# Altium integrated library TI Power Management Hot Swap.IntLib: 76 symbols (part 4 of 5)
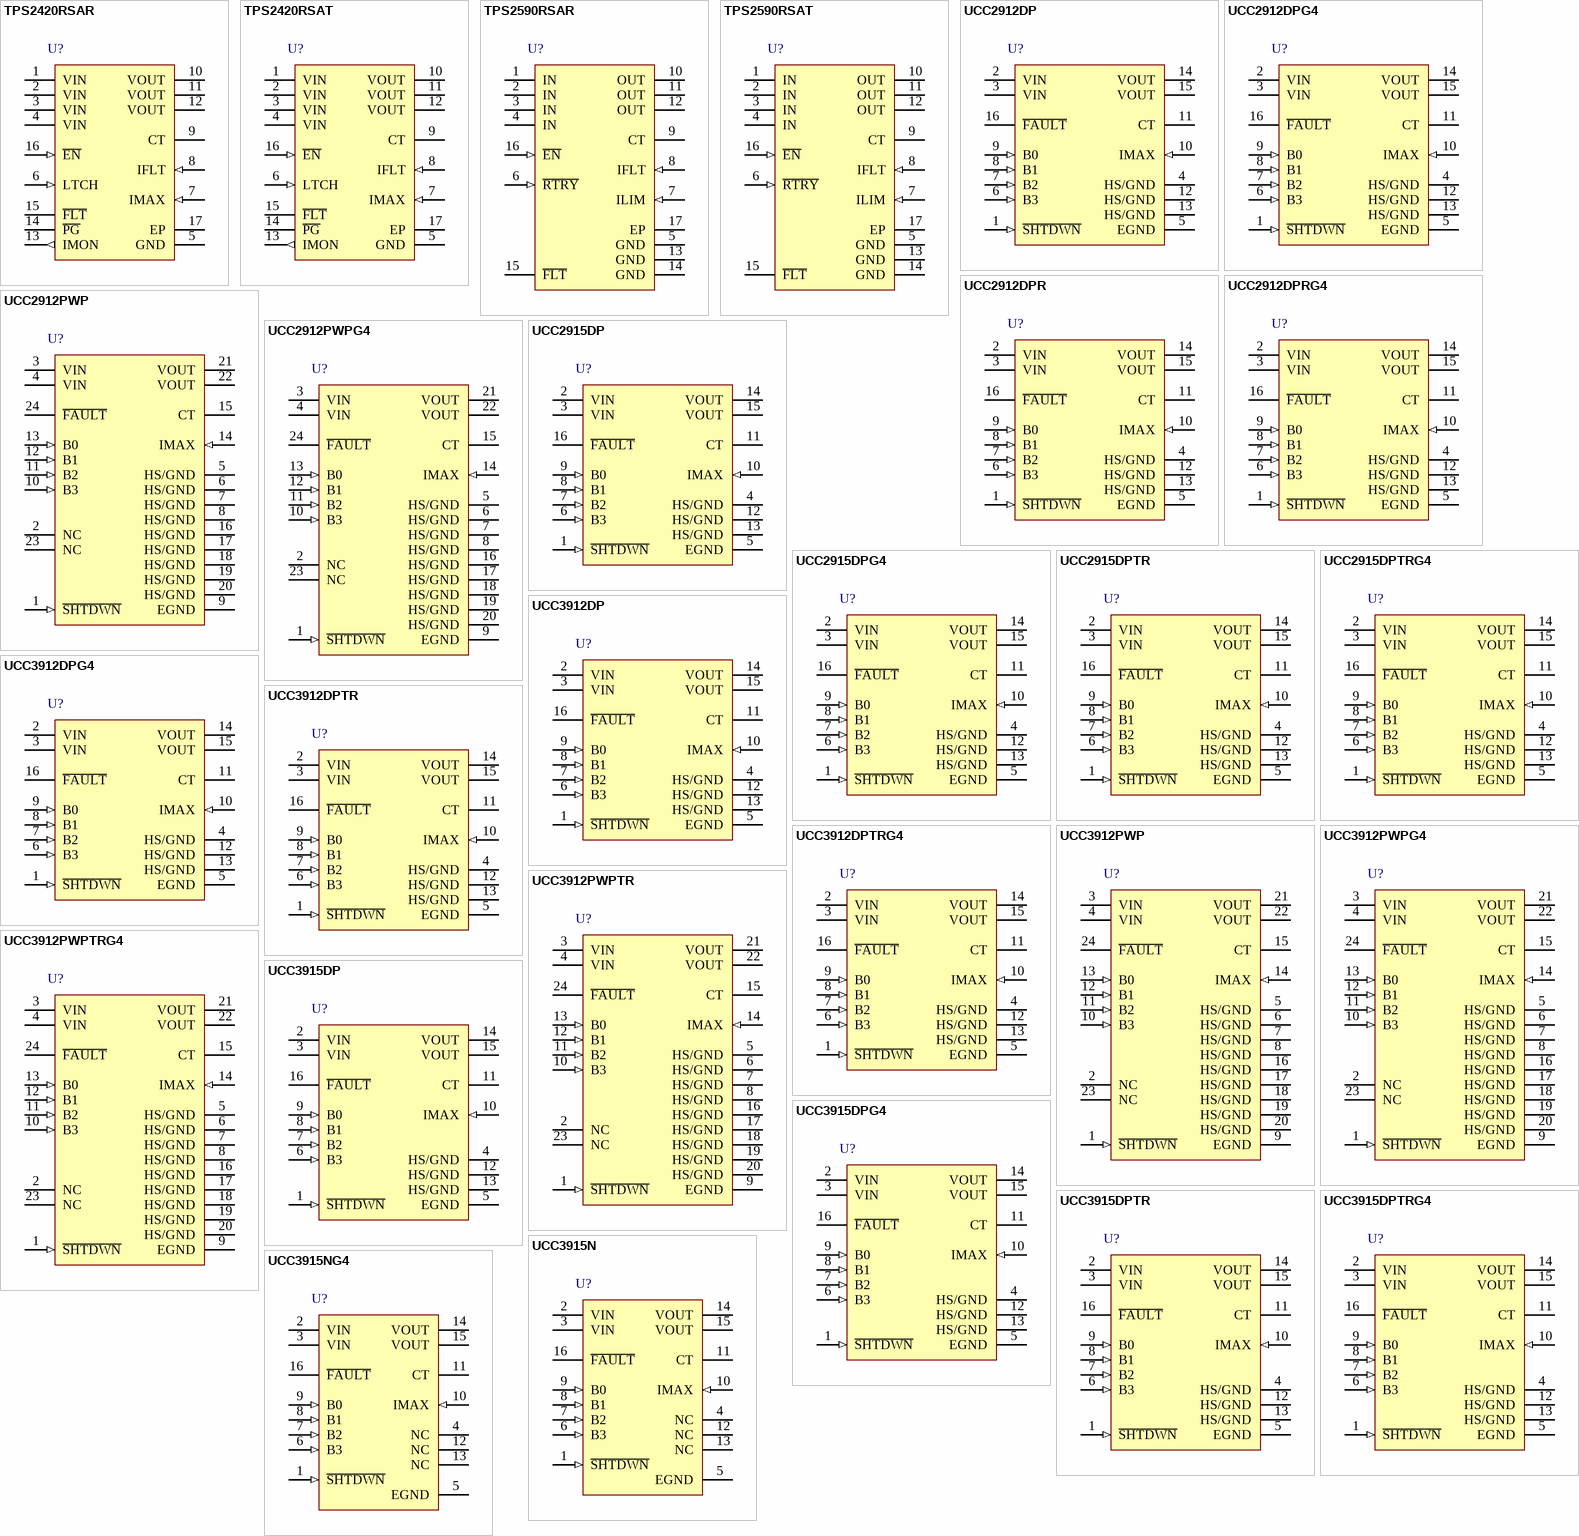
[diagram p5: symbols TPS2420RSAR to UCC3915NG4]

## UCC3912DPTR
designator U?
0 to 3 A, 3 to 8 V Single Hot-Swap IC Hi-Side MOSFET, 0 to 70 degC, 16-pin SOIC (D), Green (RoHS & no Sb/Br); Manufacturer: Texas Instruments; PartNumber: UCC3912DPTR; Over Temp Reporting: TRUE; Rds(ON) FET(Typ)(mOhms): 150; SubFamily: Hot-Swap Switch (Integrated FET); Vin(Max)(V): 8; Vin(Min)(V): 3; DatasheetVersion: SLUS241D; PackageVersion: revM, Jun-2011; PackageReference: D16; PackageDescription: 16-Pin Plastic Small Outline Integrated Circuit, 9.9 x 3.9 mm, Pitch 1.27 mm Pitch; Supplier 1: Digi-Key; Supplier Part Number 1: UCC3912DPTR-ND; Supplier 2: Newark; Supplier Part Number 2: 77C2563; Supplier 3: Mouser; Supplier Part Number 3: 595-UCC3912DPTR; Eco-Plan: Green (RoHS & no Sb/Br); Mounting Technology: Surface Mount; Code_JEDEC: MS-012AC; ComponentLink1Description: Datasheet; ComponentLink1URL: http://www.ti.com/general/docs/lit/getliterature.tsp?genericPartNumber=UCC3912&fileType=pdf; ComponentLink2Description: URL Link1; ComponentLink2URL: Samples URL:http://www.ti.com/product/ucc3912#samples
footprint D16_N (SOIC, 16-Leads, Body 9.9x3.9mm, Pitch 1.27mm, IPC Medium Density)
footprint D16_L (SOIC, 16-Leads, Body 9.9x3.9mm, Pitch 1.27mm, IPC High Density)
footprint D16_M (SOIC, 16-Leads, Body 9.9x3.9mm, Pitch 1.27mm, IPC Low Density)
pins: 1 ~{SHTDWN} (in) "When this pin is brought to a logic low, the IC is put into a sleep mode drawing typically less than 1 uA of ICC. The input threshold is hysteretic, allowing the user to program a startup delay with an external RC circuit.", 2 VIN (power) "Input voltage to the UCC3912. The recommended voltage range is 3 V to 8 V. Both VIN pins should be connected together and to the power source.", 3 VIN (power) "Input voltage to the UCC3912. The recommended voltage range is 3 V to 8 V. Both VIN pins should be connected together and to the power source.", 4 HS/GND (power) "serve as heat sink/ground.", 5 EGND (power) "serves as lowest impedance to the electrical ground", 6 B3 (in) "These pins provide digital input to the DAC which sets the fault current threshold. They can be used to provide a digital soft-start, adaptive current limiting.", 7 B2 (in) "These pins provide digital input to the DAC which sets the fault current threshold. They can be used to provide a digital soft-start, adaptive current limiting.", 8 B1 (in) "These pins provide digital input to the DAC which sets the fault current threshold. They can be used to provide a digital soft-start, adaptive current limiting.", 9 B0 (in) "These pins provide digital input to the DAC which sets the fault current threshold. They can be used to provide a digital soft-start, adaptive current limiting.", 10 IMAX (in) "When this pin is set to logic low the maximum sourcing current will always be 1 A above the programmed fault level. When set to logic high, the maximum sourcing current will be a constant 4 A for applications which require (See Datasheet)", 11 CT "A capacitor connected to ground sets the maximum fault time. The maximum fault time must be more than the time to charge the external capacitance in one cycle.The maximum fault time is defined as FAULT = 27.8 x 10^3 x CT. (See Datasheet)", 12 HS/GND (power) "serve as heat sink/ground.", 13 HS/GND (power) "serve as heat sink/ground.", 14 VOUT (power) "Output voltage from the UCC3912. When switched the output voltage will be approximately VIN - (0.15 ohm x IOUT). Both VOUT pins should be connected together and to the load.", 15 VOUT (power) "Output voltage from the UCC3912. When switched the output voltage will be approximately VIN - (0.15 ohm x IOUT). Both VOUT pins should be connected together and to the load.", 16 ~{FAULT} (oc) "Open drain output which pulls low upon any condition which causes the output to open: fault, thermal shutdown, or shutdown."

## UCC3912DPTRG4
designator U?
0 to 3 A, 3 to 8 V Single Hot-Swap IC Hi-Side MOSFET, 0 to 70 degC, 16-pin SOIC (D), Green (RoHS & no Sb/Br); Manufacturer: Texas Instruments; PartNumber: UCC3912DPTRG4; Over Temp Reporting: TRUE; Rds(ON) FET(Typ)(mOhms): 150; SubFamily: Hot-Swap Switch (Integrated FET); Vin(Max)(V): 8; Vin(Min)(V): 3; DatasheetVersion: SLUS241D; PackageVersion: revM, Jun-2011; PackageReference: D16; PackageDescription: 16-Pin Plastic Small Outline Integrated Circuit, 9.9 x 3.9 mm, Pitch 1.27 mm Pitch; Supplier 1: Digi-Key; Supplier Part Number 1: UCC3912DPTRG4-ND; Supplier 2: Newark; Supplier Part Number 2: 61K1972; Supplier 3: Mouser; Supplier Part Number 3: 595-UCC3912DPTRG4; Eco-Plan: Green (RoHS & no Sb/Br); Mounting Technology: Surface Mount; Code_JEDEC: MS-012AC; ComponentLink1Description: Datasheet; ComponentLink1URL: http://www.ti.com/general/docs/lit/getliterature.tsp?genericPartNumber=UCC3912&fileType=pdf; ComponentLink2Description: URL Link1; ComponentLink2URL: Samples URL:http://www.ti.com/product/ucc3912#samples
footprint D16_N (SOIC, 16-Leads, Body 9.9x3.9mm, Pitch 1.27mm, IPC Medium Density)
footprint D16_L (SOIC, 16-Leads, Body 9.9x3.9mm, Pitch 1.27mm, IPC High Density)
footprint D16_M (SOIC, 16-Leads, Body 9.9x3.9mm, Pitch 1.27mm, IPC Low Density)
pins: 1 ~{SHTDWN} (in) "When this pin is brought to a logic low, the IC is put into a sleep mode drawing typically less than 1 uA of ICC. The input threshold is hysteretic, allowing the user to program a startup delay with an external RC circuit.", 2 VIN (power) "Input voltage to the UCC3912. The recommended voltage range is 3 V to 8 V. Both VIN pins should be connected together and to the power source.", 3 VIN (power) "Input voltage to the UCC3912. The recommended voltage range is 3 V to 8 V. Both VIN pins should be connected together and to the power source.", 4 HS/GND (power) "serve as heat sink/ground.", 5 EGND (power) "serves as lowest impedance to the electrical ground", 6 B3 (in) "These pins provide digital input to the DAC which sets the fault current threshold. They can be used to provide a digital soft-start, adaptive current limiting.", 7 B2 (in) "These pins provide digital input to the DAC which sets the fault current threshold. They can be used to provide a digital soft-start, adaptive current limiting.", 8 B1 (in) "These pins provide digital input to the DAC which sets the fault current threshold. They can be used to provide a digital soft-start, adaptive current limiting.", 9 B0 (in) "These pins provide digital input to the DAC which sets the fault current threshold. They can be used to provide a digital soft-start, adaptive current limiting.", 10 IMAX (in) "When this pin is set to logic low the maximum sourcing current will always be 1 A above the programmed fault level. When set to logic high, the maximum sourcing current will be a constant 4 A for applications which require (See Datasheet)", 11 CT "A capacitor connected to ground sets the maximum fault time. The maximum fault time must be more than the time to charge the external capacitance in one cycle.The maximum fault time is defined as FAULT = 27.8 x 10^3 x CT. (See Datasheet)", 12 HS/GND (power) "serve as heat sink/ground.", 13 HS/GND (power) "serve as heat sink/ground.", 14 VOUT (power) "Output voltage from the UCC3912. When switched the output voltage will be approximately VIN - (0.15 ohm x IOUT). Both VOUT pins should be connected together and to the load.", 15 VOUT (power) "Output voltage from the UCC3912. When switched the output voltage will be approximately VIN - (0.15 ohm x IOUT). Both VOUT pins should be connected together and to the load.", 16 ~{FAULT} (oc) "Open drain output which pulls low upon any condition which causes the output to open: fault, thermal shutdown, or shutdown."

## UCC3912PWP
designator U?
0 to 3 A, 3 to 8 V Single Hot-Swap IC Hi-Side MOSFET, 0 to 70 degC, 24-pin TSSOP (PW), Green (RoHS & no Sb/Br); Manufacturer: Texas Instruments; PartNumber: UCC3912PWP; Over Temp Reporting: TRUE; Rds(ON) FET(Typ)(mOhms): 150; SubFamily: Hot-Swap Switch (Integrated FET); Vin(Max)(V): 8; Vin(Min)(V): 3; DatasheetVersion: SLUS241D; PackageVersion: revG, Feb-2011; PackageReference: PW24; PackageDescription: 24-Pin Thin Small Outline Package 0.65 mm Pitch; Supplier 1: Digi-Key; Supplier Part Number 1: 296-12031-5-ND; Supplier 2: Newark; Supplier Part Number 2: 77C2565; Supplier 3: Mouser; Supplier Part Number 3: 595-UCC3912PWP; Eco-Plan: Green (RoHS & no Sb/Br); Mounting Technology: Surface Mount; Code_JEDEC: MO-153; ComponentLink1Description: Datasheet; ComponentLink1URL: http://www.ti.com/general/docs/lit/getliterature.tsp?genericPartNumber=UCC3912&fileType=pdf; ComponentLink2Description: URL Link1; ComponentLink2URL: Samples URL:http://www.ti.com/product/ucc3912#samples
footprint PW24_N (TSOP, 24-Leads, Body 7.8x4.4mm, Pitch 0.65mm, IPC Medium Density)
footprint PW24_L (TSOP, 24-Leads, Body 7.8x4.4mm, Pitch 0.65mm, IPC High Density)
footprint PW24_M (TSOP, 24-Leads, Body 7.8x4.4mm, Pitch 0.65mm, IPC Low Density)
pins: 1 ~{SHTDWN} (in) "When this pin is brought to a logic low, the IC is put into a sleep mode drawing typically less than 1 uA of ICC. The input threshold is hysteretic, allowing the user to program a startup delay with an external RC circuit.", 2 NC "No connection.", 3 VIN (power) "Input voltage to the UCC3912. The recommended voltage range is 3 V to 8 V. Both VIN pins should be connected together and to the power source.", 4 VIN (power) "Input voltage to the UCC3912. The recommended voltage range is 3 V to 8 V. Both VIN pins should be connected together and to the power source.", 5 HS/GND (power) "GND pin serves as heat sink/ground.", 6 HS/GND (power) "GND pin serves as heat sink/ground.", 7 HS/GND (power) "GND pin serves as heat sink/ground.", 8 HS/GND (power) "GND pin serves as heat sink/ground.", 9 EGND (power) "EGND serves as lowest impedance to the electrical ground", 10 B3 (in) "This pin provide digital input to the DAC which sets the fault current threshold. It can be used to provide a digital soft-start, adaptive current limiting.", 11 B2 (in) "This pin provide digital input to the DAC which sets the fault current threshold. It can be used to provide a digital soft-start, adaptive current limiting.", 12 B1 (in) "This pin provide digital input to the DAC which sets the fault current threshold. It can be used to provide a digital soft-start, adaptive current limiting.", 13 B0 (in) "This pin provide digital input to the DAC which sets the fault current threshold. It can be used to provide a digital soft-start, adaptive current limiting.", 14 IMAX (in) "When this pin is set to logic low the maximum sourcing current will always be 1 A above the programmed fault level. When set to logic high, the maximum sourcing current will be a constant 4 A for applications which require (See Datasheet)", 15 CT "A capacitor connected to ground sets the maximum fault time. The maximum fault time must be more than the time to charge the external capacitance in one cycle. The maximum fault time is defined as FAULT = 27.8 x 10^3 x CT. (See Datasheet)", 16 HS/GND (power) "GND pin serves as heat sink/ground.", 17 HS/GND (power) "GND pin serves as heat sink/ground.", 18 HS/GND (power) "GND pin serves as heat sink/ground.", 19 HS/GND (power) "GND pin serves as heat sink/ground.", 20 HS/GND (power) "GND pin serves as heat sink/ground.", 21 VOUT (power) "Output voltage from the UCC3912. When switched the output voltage will be approximately VIN - (0.15 ohm x IOUT). Both VOUT pins should be connected together and to the load.", 22 VOUT (power) "Output voltage from the UCC3912. When switched the output voltage will be approximately VIN - (0.15 ohm x IOUT). Both VOUT pins should be connected together and to the load.", 23 NC "No connection.", 24 ~{FAULT} (oc) "Open drain output which pulls low upon any condition which causes the output to open: fault, thermal shutdown, or shutdown."

## UCC3912PWPG4
designator U?
0 to 3 A, 3 to 8 V Single Hot-Swap IC Hi-Side MOSFET, 0 to 70 degC, 24-pin TSSOP (PW), Green (RoHS & no Sb/Br); Manufacturer: Texas Instruments; PartNumber: UCC3912PWPG4; Over Temp Reporting: TRUE; Rds(ON) FET(Typ)(mOhms): 150; SubFamily: Hot-Swap Switch (Integrated FET); Vin(Max)(V): 8; Vin(Min)(V): 3; DatasheetVersion: SLUS241D; PackageVersion: revG, Feb-2011; PackageReference: PW24; PackageDescription: 24-Pin Thin Small Outline Package 0.65 mm Pitch; Supplier 1: Digi-Key; Supplier Part Number 1: UCC3912PWPG4-ND; Supplier 2: Newark; Supplier Part Number 2: 80K3519; Supplier 3: Mouser; Supplier Part Number 3: 595-UCC3912PWPG4; Eco-Plan: Green (RoHS & no Sb/Br); Mounting Technology: Surface Mount; Code_JEDEC: MO-153; ComponentLink1Description: Datasheet; ComponentLink1URL: http://www.ti.com/general/docs/lit/getliterature.tsp?genericPartNumber=UCC3912&fileType=pdf; ComponentLink2Description: URL Link1; ComponentLink2URL: Samples URL:http://www.ti.com/product/ucc3912#samples
footprint PW24_N (TSOP, 24-Leads, Body 7.8x4.4mm, Pitch 0.65mm, IPC Medium Density)
footprint PW24_L (TSOP, 24-Leads, Body 7.8x4.4mm, Pitch 0.65mm, IPC High Density)
footprint PW24_M (TSOP, 24-Leads, Body 7.8x4.4mm, Pitch 0.65mm, IPC Low Density)
pins: 1 ~{SHTDWN} (in) "When this pin is brought to a logic low, the IC is put into a sleep mode drawing typically less than 1 uA of ICC. The input threshold is hysteretic, allowing the user to program a startup delay with an external RC circuit.", 2 NC "No connection.", 3 VIN (power) "Input voltage to the UCC3912. The recommended voltage range is 3 V to 8 V. Both VIN pins should be connected together and to the power source.", 4 VIN (power) "Input voltage to the UCC3912. The recommended voltage range is 3 V to 8 V. Both VIN pins should be connected together and to the power source.", 5 HS/GND (power) "GND pin serves as heat sink/ground.", 6 HS/GND (power) "GND pin serves as heat sink/ground.", 7 HS/GND (power) "GND pin serves as heat sink/ground.", 8 HS/GND (power) "GND pin serves as heat sink/ground.", 9 EGND (power) "EGND serves as lowest impedance to the electrical ground", 10 B3 (in) "This pin provide digital input to the DAC which sets the fault current threshold. It can be used to provide a digital soft-start, adaptive current limiting.", 11 B2 (in) "This pin provide digital input to the DAC which sets the fault current threshold. It can be used to provide a digital soft-start, adaptive current limiting.", 12 B1 (in) "This pin provide digital input to the DAC which sets the fault current threshold. It can be used to provide a digital soft-start, adaptive current limiting.", 13 B0 (in) "This pin provide digital input to the DAC which sets the fault current threshold. It can be used to provide a digital soft-start, adaptive current limiting.", 14 IMAX (in) "When this pin is set to logic low the maximum sourcing current will always be 1 A above the programmed fault level. When set to logic high, the maximum sourcing current will be a constant 4 A for applications which require (See Datasheet)", 15 CT "A capacitor connected to ground sets the maximum fault time. The maximum fault time must be more than the time to charge the external capacitance in one cycle. The maximum fault time is defined as FAULT = 27.8 x 10^3 x CT. (See Datasheet)", 16 HS/GND (power) "GND pin serves as heat sink/ground.", 17 HS/GND (power) "GND pin serves as heat sink/ground.", 18 HS/GND (power) "GND pin serves as heat sink/ground.", 19 HS/GND (power) "GND pin serves as heat sink/ground.", 20 HS/GND (power) "GND pin serves as heat sink/ground.", 21 VOUT (power) "Output voltage from the UCC3912. When switched the output voltage will be approximately VIN - (0.15 ohm x IOUT). Both VOUT pins should be connected together and to the load.", 22 VOUT (power) "Output voltage from the UCC3912. When switched the output voltage will be approximately VIN - (0.15 ohm x IOUT). Both VOUT pins should be connected together and to the load.", 23 NC "No connection.", 24 ~{FAULT} (oc) "Open drain output which pulls low upon any condition which causes the output to open: fault, thermal shutdown, or shutdown."

## UCC3912PWPTR
designator U?
0 to 3 A, 3 to 8 V Single Hot-Swap IC Hi-Side MOSFET, 0 to 70 degC, 24-pin TSSOP (PW), Green (RoHS & no Sb/Br); Manufacturer: Texas Instruments; PartNumber: UCC3912PWPTR; Over Temp Reporting: TRUE; Rds(ON) FET(Typ)(mOhms): 150; SubFamily: Hot-Swap Switch (Integrated FET); Vin(Max)(V): 8; Vin(Min)(V): 3; DatasheetVersion: SLUS241D; PackageVersion: revG, Feb-2011; PackageReference: PW24; PackageDescription: 24-Pin Thin Small Outline Package 0.65 mm Pitch; Supplier 1: Digi-Key; Supplier Part Number 1: UCC3912PWPTR-ND; Supplier 2: Newark; Supplier Part Number 2: 77C2566; Supplier 3: Mouser; Supplier Part Number 3: 595-UCC3912PWPTR; Eco-Plan: Green (RoHS & no Sb/Br); Mounting Technology: Surface Mount; Code_JEDEC: MO-153; ComponentLink1Description: Datasheet; ComponentLink1URL: http://www.ti.com/general/docs/lit/getliterature.tsp?genericPartNumber=UCC3912&fileType=pdf; ComponentLink2Description: URL Link1; ComponentLink2URL: Samples URL:http://www.ti.com/product/ucc3912#samples
footprint PW24_N (TSOP, 24-Leads, Body 7.8x4.4mm, Pitch 0.65mm, IPC Medium Density)
footprint PW24_L (TSOP, 24-Leads, Body 7.8x4.4mm, Pitch 0.65mm, IPC High Density)
footprint PW24_M (TSOP, 24-Leads, Body 7.8x4.4mm, Pitch 0.65mm, IPC Low Density)
pins: 1 ~{SHTDWN} (in) "When this pin is brought to a logic low, the IC is put into a sleep mode drawing typically less than 1 uA of ICC. The input threshold is hysteretic, allowing the user to program a startup delay with an external RC circuit.", 2 NC "No connection.", 3 VIN (power) "Input voltage to the UCC3912. The recommended voltage range is 3 V to 8 V. Both VIN pins should be connected together and to the power source.", 4 VIN (power) "Input voltage to the UCC3912. The recommended voltage range is 3 V to 8 V. Both VIN pins should be connected together and to the power source.", 5 HS/GND (power) "GND pin serves as heat sink/ground.", 6 HS/GND (power) "GND pin serves as heat sink/ground.", 7 HS/GND (power) "GND pin serves as heat sink/ground.", 8 HS/GND (power) "GND pin serves as heat sink/ground.", 9 EGND (power) "EGND serves as lowest impedance to the electrical ground", 10 B3 (in) "This pin provide digital input to the DAC which sets the fault current threshold. It can be used to provide a digital soft-start, adaptive current limiting.", 11 B2 (in) "This pin provide digital input to the DAC which sets the fault current threshold. It can be used to provide a digital soft-start, adaptive current limiting.", 12 B1 (in) "This pin provide digital input to the DAC which sets the fault current threshold. It can be used to provide a digital soft-start, adaptive current limiting.", 13 B0 (in) "This pin provide digital input to the DAC which sets the fault current threshold. It can be used to provide a digital soft-start, adaptive current limiting.", 14 IMAX (in) "When this pin is set to logic low the maximum sourcing current will always be 1 A above the programmed fault level. When set to logic high, the maximum sourcing current will be a constant 4 A for applications which require (See Datasheet)", 15 CT "A capacitor connected to ground sets the maximum fault time. The maximum fault time must be more than the time to charge the external capacitance in one cycle. The maximum fault time is defined as FAULT = 27.8 x 10^3 x CT. (See Datasheet)", 16 HS/GND (power) "GND pin serves as heat sink/ground.", 17 HS/GND (power) "GND pin serves as heat sink/ground.", 18 HS/GND (power) "GND pin serves as heat sink/ground.", 19 HS/GND (power) "GND pin serves as heat sink/ground.", 20 HS/GND (power) "GND pin serves as heat sink/ground.", 21 VOUT (power) "Output voltage from the UCC3912. When switched the output voltage will be approximately VIN - (0.15 ohm x IOUT). Both VOUT pins should be connected together and to the load.", 22 VOUT (power) "Output voltage from the UCC3912. When switched the output voltage will be approximately VIN - (0.15 ohm x IOUT). Both VOUT pins should be connected together and to the load.", 23 NC "No connection.", 24 ~{FAULT} (oc) "Open drain output which pulls low upon any condition which causes the output to open: fault, thermal shutdown, or shutdown."

## UCC3912PWPTRG4
designator U?
0 to 3 A, 3 to 8 V Single Hot-Swap IC Hi-Side MOSFET, 0 to 70 degC, 24-pin TSSOP (PW), Green (RoHS & no Sb/Br); Manufacturer: Texas Instruments; PartNumber: UCC3912PWPTRG4; Over Temp Reporting: TRUE; Rds(ON) FET(Typ)(mOhms): 150; SubFamily: Hot-Swap Switch (Integrated FET); Vin(Max)(V): 8; Vin(Min)(V): 3; DatasheetVersion: SLUS241D; PackageVersion: revG, Feb-2011; PackageReference: PW24; PackageDescription: 24-Pin Thin Small Outline Package 0.65 mm Pitch; Supplier 1: Digi-Key; Supplier Part Number 1: UCC3912PWPTRG4-ND; Supplier 2: Newark; Supplier Part Number 2: 67K8798; Supplier 3: Mouser; Supplier Part Number 3: 595-UCC3912PWPTRG4; Eco-Plan: Green (RoHS & no Sb/Br); Mounting Technology: Surface Mount; Code_JEDEC: MO-153; ComponentLink1Description: Datasheet; ComponentLink1URL: http://www.ti.com/general/docs/lit/getliterature.tsp?genericPartNumber=UCC3912&fileType=pdf; ComponentLink2Description: URL Link1; ComponentLink2URL: Samples URL:http://www.ti.com/product/ucc3912#samples
footprint PW24_N (TSOP, 24-Leads, Body 7.8x4.4mm, Pitch 0.65mm, IPC Medium Density)
footprint PW24_L (TSOP, 24-Leads, Body 7.8x4.4mm, Pitch 0.65mm, IPC High Density)
footprint PW24_M (TSOP, 24-Leads, Body 7.8x4.4mm, Pitch 0.65mm, IPC Low Density)
pins: 1 ~{SHTDWN} (in) "When this pin is brought to a logic low, the IC is put into a sleep mode drawing typically less than 1 uA of ICC. The input threshold is hysteretic, allowing the user to program a startup delay with an external RC circuit.", 2 NC "No connection.", 3 VIN (power) "Input voltage to the UCC3912. The recommended voltage range is 3 V to 8 V. Both VIN pins should be connected together and to the power source.", 4 VIN (power) "Input voltage to the UCC3912. The recommended voltage range is 3 V to 8 V. Both VIN pins should be connected together and to the power source.", 5 HS/GND (power) "GND pin serves as heat sink/ground.", 6 HS/GND (power) "GND pin serves as heat sink/ground.", 7 HS/GND (power) "GND pin serves as heat sink/ground.", 8 HS/GND (power) "GND pin serves as heat sink/ground.", 9 EGND (power) "EGND serves as lowest impedance to the electrical ground", 10 B3 (in) "This pin provide digital input to the DAC which sets the fault current threshold. It can be used to provide a digital soft-start, adaptive current limiting.", 11 B2 (in) "This pin provide digital input to the DAC which sets the fault current threshold. It can be used to provide a digital soft-start, adaptive current limiting.", 12 B1 (in) "This pin provide digital input to the DAC which sets the fault current threshold. It can be used to provide a digital soft-start, adaptive current limiting.", 13 B0 (in) "This pin provide digital input to the DAC which sets the fault current threshold. It can be used to provide a digital soft-start, adaptive current limiting.", 14 IMAX (in) "When this pin is set to logic low the maximum sourcing current will always be 1 A above the programmed fault level. When set to logic high, the maximum sourcing current will be a constant 4 A for applications which require (See Datasheet)", 15 CT "A capacitor connected to ground sets the maximum fault time. The maximum fault time must be more than the time to charge the external capacitance in one cycle. The maximum fault time is defined as FAULT = 27.8 x 10^3 x CT. (See Datasheet)", 16 HS/GND (power) "GND pin serves as heat sink/ground.", 17 HS/GND (power) "GND pin serves as heat sink/ground.", 18 HS/GND (power) "GND pin serves as heat sink/ground.", 19 HS/GND (power) "GND pin serves as heat sink/ground.", 20 HS/GND (power) "GND pin serves as heat sink/ground.", 21 VOUT (power) "Output voltage from the UCC3912. When switched the output voltage will be approximately VIN - (0.15 ohm x IOUT). Both VOUT pins should be connected together and to the load.", 22 VOUT (power) "Output voltage from the UCC3912. When switched the output voltage will be approximately VIN - (0.15 ohm x IOUT). Both VOUT pins should be connected together and to the load.", 23 NC "No connection.", 24 ~{FAULT} (oc) "Open drain output which pulls low upon any condition which causes the output to open: fault, thermal shutdown, or shutdown."

## UCC3915DP
designator U?
0 to 3 A, 7 to 15 V Single Hot-Swap IC Hi-Side MOSFET, 100 uA IQ in Sleep Mode, 0 to 70 degC, 16-pin SOIC (D), Green (RoHS & no Sb/Br); Manufacturer: Texas Instruments; PartNumber: UCC3915DP; Over Temp Reporting: TRUE; Rds(ON) FET(Typ)(mOhms): 150; SubFamily: Hot-Swap Switch (Integrated FET); Vin(Max)(V): 15; Vin(Min)(V): 7; DatasheetVersion: SLUS198C; PackageVersion: revM, Jun-2011; PackageReference: D16; PackageDescription: 16-Pin Plastic Small Outline Integrated Circuit, 9.9 x 3.9 mm, Pitch 1.27 mm Pitch; Supplier 1: Digi-Key; Supplier Part Number 1: 296-2336-5-ND; Supplier 2: Newark; Supplier Part Number 2: 77C2571; Supplier 3: Mouser; Supplier Part Number 3: 595-UCC3915DP; Eco-Plan: Green (RoHS & no Sb/Br); Mounting Technology: Surface Mount; Code_JEDEC: MS-012AC; ComponentLink1Description: Datasheet; ComponentLink1URL: http://www.ti.com/general/docs/lit/getliterature.tsp?genericPartNumber=UCC3915&fileType=pdf; ComponentLink2Description: URL Link1; ComponentLink2URL: Samples URL:http://www.ti.com/product/ucc3915#samples
footprint D16_N (SOIC, 16-Leads, Body 9.9x3.9mm, Pitch 1.27mm, IPC Medium Density)
footprint D16_L (SOIC, 16-Leads, Body 9.9x3.9mm, Pitch 1.27mm, IPC High Density)
footprint D16_M (SOIC, 16-Leads, Body 9.9x3.9mm, Pitch 1.27mm, IPC Low Density)
pins: 1 ~{SHTDWN} (in) "When this pin is set to a logic low, the maximum-sourcing current will always be 1 A above the programmed-fault level. When set to a logic high, the maximum-sourcing current will be a constant 4 A for applications which (See Datasheet)", 2 VIN (power) "Input voltage to the UCC3915. The recommended voltage range is 7 V to 15 V. Both VIN pins should be connected together and connected to the power source.", 3 VIN (power) "Input voltage to the UCC3915. The recommended voltage range is 7 V to 15 V. Both VIN pins should be connected together and connected to the power source.", 4 HS/GND (power) "No connection", 5 EGND (power) "Ground connection", 6 B3 (in) "These pins provide digital input to the DAC, which sets the fault-current threshold. They can be used to provide a digital soft-start and adaptive-current limiting.", 7 B2 (in) "These pins provide digital input to the DAC, which sets the fault-current threshold. They can be used to provide a digital soft-start and adaptive-current limiting.", 8 B1 (in) "These pins provide digital input to the DAC, which sets the fault-current threshold. They can be used to provide a digital soft-start and adaptive-current limiting.", 9 B0 (in) "These pins provide digital input to the DAC, which sets the fault-current threshold. They can be used to provide a digital soft-start and adaptive-current limiting.", 10 IMAX (in) "When this pin is set to a logic low, the maximum-sourcing current will always be 1 A above the programmed-fault level. When set to a logic high, the maximum-sourcing current will be a constant 4 A for applications which (See Datasheet)", 11 CT "A capacitor connected to ground sets the maximum-fault time. The maximum-fault time must be more than the time required to charge the external capacitance in one cycle. The maximum-fault time is defined as TFAULT = 16.1 x (See Datasheet)", 12 HS/GND (power) "No connection", 13 HS/GND (power) "No connection", 14 VOUT (power) "Output voltage from the UCC3915. Both VOUT pins should be connected together and connected to the load. When switched the output voltage will be approximately VIN - (0.15 ohmx IOUT). VOUT must not exceed VIN by greater than (See Datasheet)", 15 VOUT (power) "Output voltage from the UCC3915. Both VOUT pins should be connected together and connected to the load. When switched the output voltage will be approximately VIN - (0.15 ohmx IOUT). VOUT must not exceed VIN by greater than (See Datasheet)", 16 ~{FAULT} (oc) "Open-drain output, which pulls low upon any fault or interrupt condition, or thermal shutdown."

## UCC3915DPG4
designator U?
0 to 3 A, 7 to 15 V Single Hot-Swap IC Hi-Side MOSFET, 100 uA IQ in Sleep Mode, 0 to 70 degC, 16-pin SOIC (D), Green (RoHS & no Sb/Br); Manufacturer: Texas Instruments; PartNumber: UCC3915DPG4; Over Temp Reporting: TRUE; Rds(ON) FET(Typ)(mOhms): 150; SubFamily: Hot-Swap Switch (Integrated FET); Vin(Max)(V): 15; Vin(Min)(V): 7; DatasheetVersion: SLUS198C; PackageVersion: revM, Jun-2011; PackageReference: D16; PackageDescription: 16-Pin Plastic Small Outline Integrated Circuit, 9.9 x 3.9 mm, Pitch 1.27 mm Pitch; Supplier 1: Digi-Key; Supplier Part Number 1: UCC3915DPG4-ND; Supplier 2: Newark; Supplier Part Number 2: 27M1169; Supplier 3: Mouser; Supplier Part Number 3: 595-UCC3915DPG4; Eco-Plan: Green (RoHS & no Sb/Br); Mounting Technology: Surface Mount; Code_JEDEC: MS-012AC; ComponentLink1Description: Datasheet; ComponentLink1URL: http://www.ti.com/general/docs/lit/getliterature.tsp?genericPartNumber=UCC3915&fileType=pdf; ComponentLink2Description: URL Link1; ComponentLink2URL: Samples URL:http://www.ti.com/product/ucc3915#samples
footprint D16_N (SOIC, 16-Leads, Body 9.9x3.9mm, Pitch 1.27mm, IPC Medium Density)
footprint D16_L (SOIC, 16-Leads, Body 9.9x3.9mm, Pitch 1.27mm, IPC High Density)
footprint D16_M (SOIC, 16-Leads, Body 9.9x3.9mm, Pitch 1.27mm, IPC Low Density)
pins: 1 ~{SHTDWN} (in) "When this pin is set to a logic low, the maximum-sourcing current will always be 1 A above the programmed-fault level. When set to a logic high, the maximum-sourcing current will be a constant 4 A for applications which (See Datasheet)", 2 VIN (power) "Input voltage to the UCC3915. The recommended voltage range is 7 V to 15 V. Both VIN pins should be connected together and connected to the power source.", 3 VIN (power) "Input voltage to the UCC3915. The recommended voltage range is 7 V to 15 V. Both VIN pins should be connected together and connected to the power source.", 4 HS/GND (power) "No connection", 5 EGND (power) "Ground connection", 6 B3 (in) "These pins provide digital input to the DAC, which sets the fault-current threshold. They can be used to provide a digital soft-start and adaptive-current limiting.", 7 B2 (in) "These pins provide digital input to the DAC, which sets the fault-current threshold. They can be used to provide a digital soft-start and adaptive-current limiting.", 8 B1 (in) "These pins provide digital input to the DAC, which sets the fault-current threshold. They can be used to provide a digital soft-start and adaptive-current limiting.", 9 B0 (in) "These pins provide digital input to the DAC, which sets the fault-current threshold. They can be used to provide a digital soft-start and adaptive-current limiting.", 10 IMAX (in) "When this pin is set to a logic low, the maximum-sourcing current will always be 1 A above the programmed-fault level. When set to a logic high, the maximum-sourcing current will be a constant 4 A for applications which (See Datasheet)", 11 CT "A capacitor connected to ground sets the maximum-fault time. The maximum-fault time must be more than the time required to charge the external capacitance in one cycle. The maximum-fault time is defined as TFAULT = 16.1 x (See Datasheet)", 12 HS/GND (power) "No connection", 13 HS/GND (power) "No connection", 14 VOUT (power) "Output voltage from the UCC3915. Both VOUT pins should be connected together and connected to the load. When switched the output voltage will be approximately VIN - (0.15 ohmx IOUT). VOUT must not exceed VIN by greater than (See Datasheet)", 15 VOUT (power) "Output voltage from the UCC3915. Both VOUT pins should be connected together and connected to the load. When switched the output voltage will be approximately VIN - (0.15 ohmx IOUT). VOUT must not exceed VIN by greater than (See Datasheet)", 16 ~{FAULT} (oc) "Open-drain output, which pulls low upon any fault or interrupt condition, or thermal shutdown."

## UCC3915DPTR
designator U?
0 to 3 A, 7 to 15 V Single Hot-Swap IC Hi-Side MOSFET, 100 uA IQ in Sleep Mode, 0 to 70 degC, 16-pin SOIC (D), Green (RoHS & no Sb/Br); Manufacturer: Texas Instruments; PartNumber: UCC3915DPTR; Over Temp Reporting: TRUE; Rds(ON) FET(Typ)(mOhms): 150; SubFamily: Hot-Swap Switch (Integrated FET); Vin(Max)(V): 15; Vin(Min)(V): 7; DatasheetVersion: SLUS198C; PackageVersion: revM, Jun-2011; PackageReference: D16; PackageDescription: 16-Pin Plastic Small Outline Integrated Circuit, 9.9 x 3.9 mm, Pitch 1.27 mm Pitch; Supplier 1: Digi-Key; Supplier Part Number 1: UCC3915DPTR-ND; Supplier 2: Newark; Supplier Part Number 2: 77C2572; Supplier 3: Mouser; Supplier Part Number 3: 595-UCC3915DPTR; Eco-Plan: Green (RoHS & no Sb/Br); Mounting Technology: Surface Mount; Code_JEDEC: MS-012AC; ComponentLink1Description: Datasheet; ComponentLink1URL: http://www.ti.com/general/docs/lit/getliterature.tsp?genericPartNumber=UCC3915&fileType=pdf; ComponentLink2Description: URL Link1; ComponentLink2URL: Samples URL:http://www.ti.com/product/ucc3915#samples
footprint D16_N (SOIC, 16-Leads, Body 9.9x3.9mm, Pitch 1.27mm, IPC Medium Density)
footprint D16_L (SOIC, 16-Leads, Body 9.9x3.9mm, Pitch 1.27mm, IPC High Density)
footprint D16_M (SOIC, 16-Leads, Body 9.9x3.9mm, Pitch 1.27mm, IPC Low Density)
pins: 1 ~{SHTDWN} (in) "When this pin is set to a logic low, the maximum-sourcing current will always be 1 A above the programmed-fault level. When set to a logic high, the maximum-sourcing current will be a constant 4 A for applications which (See Datasheet)", 2 VIN (power) "Input voltage to the UCC3915. The recommended voltage range is 7 V to 15 V. Both VIN pins should be connected together and connected to the power source.", 3 VIN (power) "Input voltage to the UCC3915. The recommended voltage range is 7 V to 15 V. Both VIN pins should be connected together and connected to the power source.", 4 HS/GND (power) "No connection", 5 EGND (power) "Ground connection", 6 B3 (in) "These pins provide digital input to the DAC, which sets the fault-current threshold. They can be used to provide a digital soft-start and adaptive-current limiting.", 7 B2 (in) "These pins provide digital input to the DAC, which sets the fault-current threshold. They can be used to provide a digital soft-start and adaptive-current limiting.", 8 B1 (in) "These pins provide digital input to the DAC, which sets the fault-current threshold. They can be used to provide a digital soft-start and adaptive-current limiting.", 9 B0 (in) "These pins provide digital input to the DAC, which sets the fault-current threshold. They can be used to provide a digital soft-start and adaptive-current limiting.", 10 IMAX (in) "When this pin is set to a logic low, the maximum-sourcing current will always be 1 A above the programmed-fault level. When set to a logic high, the maximum-sourcing current will be a constant 4 A for applications which (See Datasheet)", 11 CT "A capacitor connected to ground sets the maximum-fault time. The maximum-fault time must be more than the time required to charge the external capacitance in one cycle. The maximum-fault time is defined as TFAULT = 16.1 x (See Datasheet)", 12 HS/GND (power) "No connection", 13 HS/GND (power) "No connection", 14 VOUT (power) "Output voltage from the UCC3915. Both VOUT pins should be connected together and connected to the load. When switched the output voltage will be approximately VIN - (0.15 ohmx IOUT). VOUT must not exceed VIN by greater than (See Datasheet)", 15 VOUT (power) "Output voltage from the UCC3915. Both VOUT pins should be connected together and connected to the load. When switched the output voltage will be approximately VIN - (0.15 ohmx IOUT). VOUT must not exceed VIN by greater than (See Datasheet)", 16 ~{FAULT} (oc) "Open-drain output, which pulls low upon any fault or interrupt condition, or thermal shutdown."

## UCC3915DPTRG4
designator U?
0 to 3 A, 7 to 15 V Single Hot-Swap IC Hi-Side MOSFET, 100 uA IQ in Sleep Mode, 0 to 70 degC, 16-pin SOIC (D), Green (RoHS & no Sb/Br); Manufacturer: Texas Instruments; PartNumber: UCC3915DPTRG4; Over Temp Reporting: TRUE; Rds(ON) FET(Typ)(mOhms): 150; SubFamily: Hot-Swap Switch (Integrated FET); Vin(Max)(V): 15; Vin(Min)(V): 7; DatasheetVersion: SLUS198C; PackageVersion: revM, Jun-2011; PackageReference: D16; PackageDescription: 16-Pin Plastic Small Outline Integrated Circuit, 9.9 x 3.9 mm, Pitch 1.27 mm Pitch; Supplier 1: Digi-Key; Supplier Part Number 1: UCC3915DPTRG4-ND; Supplier 2: Newark; Supplier Part Number 2: 10M0712; Supplier 3: Mouser; Supplier Part Number 3: 595-UCC3915DPTRG4; Eco-Plan: Green (RoHS & no Sb/Br); Mounting Technology: Surface Mount; Code_JEDEC: MS-012AC; ComponentLink1Description: Datasheet; ComponentLink1URL: http://www.ti.com/general/docs/lit/getliterature.tsp?genericPartNumber=UCC3915&fileType=pdf; ComponentLink2Description: URL Link1; ComponentLink2URL: Samples URL:http://www.ti.com/product/ucc3915#samples
footprint D16_N (SOIC, 16-Leads, Body 9.9x3.9mm, Pitch 1.27mm, IPC Medium Density)
footprint D16_L (SOIC, 16-Leads, Body 9.9x3.9mm, Pitch 1.27mm, IPC High Density)
footprint D16_M (SOIC, 16-Leads, Body 9.9x3.9mm, Pitch 1.27mm, IPC Low Density)
pins: 1 ~{SHTDWN} (in) "When this pin is set to a logic low, the maximum-sourcing current will always be 1 A above the programmed-fault level. When set to a logic high, the maximum-sourcing current will be a constant 4 A for applications which (See Datasheet)", 2 VIN (power) "Input voltage to the UCC3915. The recommended voltage range is 7 V to 15 V. Both VIN pins should be connected together and connected to the power source.", 3 VIN (power) "Input voltage to the UCC3915. The recommended voltage range is 7 V to 15 V. Both VIN pins should be connected together and connected to the power source.", 4 HS/GND (power) "No connection", 5 EGND (power) "Ground connection", 6 B3 (in) "These pins provide digital input to the DAC, which sets the fault-current threshold. They can be used to provide a digital soft-start and adaptive-current limiting.", 7 B2 (in) "These pins provide digital input to the DAC, which sets the fault-current threshold. They can be used to provide a digital soft-start and adaptive-current limiting.", 8 B1 (in) "These pins provide digital input to the DAC, which sets the fault-current threshold. They can be used to provide a digital soft-start and adaptive-current limiting.", 9 B0 (in) "These pins provide digital input to the DAC, which sets the fault-current threshold. They can be used to provide a digital soft-start and adaptive-current limiting.", 10 IMAX (in) "When this pin is set to a logic low, the maximum-sourcing current will always be 1 A above the programmed-fault level. When set to a logic high, the maximum-sourcing current will be a constant 4 A for applications which (See Datasheet)", 11 CT "A capacitor connected to ground sets the maximum-fault time. The maximum-fault time must be more than the time required to charge the external capacitance in one cycle. The maximum-fault time is defined as TFAULT = 16.1 x (See Datasheet)", 12 HS/GND (power) "No connection", 13 HS/GND (power) "No connection", 14 VOUT (power) "Output voltage from the UCC3915. Both VOUT pins should be connected together and connected to the load. When switched the output voltage will be approximately VIN - (0.15 ohmx IOUT). VOUT must not exceed VIN by greater than (See Datasheet)", 15 VOUT (power) "Output voltage from the UCC3915. Both VOUT pins should be connected together and connected to the load. When switched the output voltage will be approximately VIN - (0.15 ohmx IOUT). VOUT must not exceed VIN by greater than (See Datasheet)", 16 ~{FAULT} (oc) "Open-drain output, which pulls low upon any fault or interrupt condition, or thermal shutdown."

## UCC3915N
designator U?
0 to 3 A, 7 to 15 V Single Hot-Swap IC Hi-Side MOSFET, 100 uA IQ in Sleep Mode, 0 to 70 degC, 16-pin PDIP (N); Manufacturer: Texas Instruments; PartNumber: UCC3915N; Over Temp Reporting: TRUE; Rds(ON) FET(Typ)(mOhms): 150; SubFamily: Hot-Swap Switch (Integrated FET); Vin(Max)(V): 15; Vin(Min)(V): 7; DatasheetVersion: SLUS198C; PackageVersion: revE, Dec-2002; PackageReference: N16; PackageDescription: 16-Pin Plastic Dual-In-Line Package, Row Spacing 7.62 mm, Pitch 2.54 mm; Supplier 1: Digi-Key; Supplier Part Number 1: 296-6771-5-ND; Supplier 2: Newark; Supplier Part Number 2: 77C2573; Supplier 3: Mouser; Supplier Part Number 3: 595-UCC3915N; Mounting Technology: Through Hole; Code_JEDEC: MS-001*; ComponentLink1Description: Datasheet; ComponentLink1URL: http://www.ti.com/general/docs/lit/getliterature.tsp?genericPartNumber=UCC3915&fileType=pdf; ComponentLink2Description: URL Link1; ComponentLink2URL: Samples URL:http://www.ti.com/product/ucc3915#samples
footprint N16 (DIP, 16-Leads, Row Spacing 7.62mm, Pitch 2.54mm, Body 19.3x6.4mm)
pins: 1 ~{SHTDWN} (in) "When this pin is set to a logic low, the maximum-sourcing current will always be 1 A above the programmed-fault level. When set to a logic high, the maximum-sourcing current will be a constant 4 A for applications which (See Datasheet)", 2 VIN (power) "Input voltage to the UCC3915. The recommended voltage range is 7 V to 15 V. Both VIN pins should be connected together and connected to the power source.", 3 VIN (power) "Input voltage to the UCC3915. The recommended voltage range is 7 V to 15 V. Both VIN pins should be connected together and connected to the power source.", 4 NC "No connection", 5 EGND (power) "Ground connection", 6 B3 (in) "These pins provide digital input to the DAC, which sets the fault-current threshold. They can be used to provide a digital soft-start and adaptive-current limiting.", 7 B2 (in) "These pins provide digital input to the DAC, which sets the fault-current threshold. They can be used to provide a digital soft-start and adaptive-current limiting.", 8 B1 (in) "These pins provide digital input to the DAC, which sets the fault-current threshold. They can be used to provide a digital soft-start and adaptive-current limiting.", 9 B0 (in) "These pins provide digital input to the DAC, which sets the fault-current threshold. They can be used to provide a digital soft-start and adaptive-current limiting.", 10 IMAX (in) "When this pin is set to a logic low, the maximum-sourcing current will always be 1 A above the programmed-fault level. When set to a logic high, the maximum-sourcing current will be a constant 4 A for applications which (See Datasheet)", 11 CT "A capacitor connected to ground sets the maximum-fault time. The maximum-fault time must be more than the time required to charge the external capacitance in one cycle. The maximum-fault time is defined as TFAULT = 16.1 x (See Datasheet)", 12 NC "No connection", 13 NC "No connection", 14 VOUT (power) "Output voltage from the UCC3915. Both VOUT pins should be connected together and connected to the load. When switched the output voltage will be approximately VIN - (0.15 ohmx IOUT). VOUT must not exceed VIN by greater than (See Datasheet)", 15 VOUT (power) "Output voltage from the UCC3915. Both VOUT pins should be connected together and connected to the load. When switched the output voltage will be approximately VIN - (0.15 ohmx IOUT). VOUT must not exceed VIN by greater than (See Datasheet)", 16 ~{FAULT} (oc) "Open-drain output, which pulls low upon any fault or interrupt condition, or thermal shutdown."

## UCC3915NG4
designator U?
0 to 3 A, 7 to 15 V Single Hot-Swap IC Hi-Side MOSFET, 100 uA IQ in Sleep Mode, 0 to 70 degC, 16-pin PDIP (N); Manufacturer: Texas Instruments; PartNumber: UCC3915NG4; Over Temp Reporting: TRUE; Rds(ON) FET(Typ)(mOhms): 150; SubFamily: Hot-Swap Switch (Integrated FET); Vin(Max)(V): 15; Vin(Min)(V): 7; DatasheetVersion: SLUS198C; PackageVersion: revE, Dec-2002; PackageReference: N16; PackageDescription: 16-Pin Plastic Dual-In-Line Package, Row Spacing 7.62 mm, Pitch 2.54 mm; Supplier 1: Digi-Key; Supplier Part Number 1: UCC3915NG4-ND; Supplier 2: Newark; Supplier Part Number 2: 54K2186; Supplier 3: Mouser; Supplier Part Number 3: 595-UCC3915NG4; Mounting Technology: Through Hole; Code_JEDEC: MS-001*; ComponentLink1Description: Datasheet; ComponentLink1URL: http://www.ti.com/general/docs/lit/getliterature.tsp?genericPartNumber=UCC3915&fileType=pdf; ComponentLink2Description: URL Link1; ComponentLink2URL: Samples URL:http://www.ti.com/product/ucc3915#samples
footprint N16 (DIP, 16-Leads, Row Spacing 7.62mm, Pitch 2.54mm, Body 19.3x6.4mm)
pins: 1 ~{SHTDWN} (in) "When this pin is set to a logic low, the maximum-sourcing current will always be 1 A above the programmed-fault level. When set to a logic high, the maximum-sourcing current will be a constant 4 A for applications which (See Datasheet)", 2 VIN (power) "Input voltage to the UCC3915. The recommended voltage range is 7 V to 15 V. Both VIN pins should be connected together and connected to the power source.", 3 VIN (power) "Input voltage to the UCC3915. The recommended voltage range is 7 V to 15 V. Both VIN pins should be connected together and connected to the power source.", 4 NC "No connection", 5 EGND (power) "Ground connection", 6 B3 (in) "These pins provide digital input to the DAC, which sets the fault-current threshold. They can be used to provide a digital soft-start and adaptive-current limiting.", 7 B2 (in) "These pins provide digital input to the DAC, which sets the fault-current threshold. They can be used to provide a digital soft-start and adaptive-current limiting.", 8 B1 (in) "These pins provide digital input to the DAC, which sets the fault-current threshold. They can be used to provide a digital soft-start and adaptive-current limiting.", 9 B0 (in) "These pins provide digital input to the DAC, which sets the fault-current threshold. They can be used to provide a digital soft-start and adaptive-current limiting.", 10 IMAX (in) "When this pin is set to a logic low, the maximum-sourcing current will always be 1 A above the programmed-fault level. When set to a logic high, the maximum-sourcing current will be a constant 4 A for applications which (See Datasheet)", 11 CT "A capacitor connected to ground sets the maximum-fault time. The maximum-fault time must be more than the time required to charge the external capacitance in one cycle. The maximum-fault time is defined as TFAULT = 16.1 x (See Datasheet)", 12 NC "No connection", 13 NC "No connection", 14 VOUT (power) "Output voltage from the UCC3915. Both VOUT pins should be connected together and connected to the load. When switched the output voltage will be approximately VIN - (0.15 ohmx IOUT). VOUT must not exceed VIN by greater than (See Datasheet)", 15 VOUT (power) "Output voltage from the UCC3915. Both VOUT pins should be connected together and connected to the load. When switched the output voltage will be approximately VIN - (0.15 ohmx IOUT). VOUT must not exceed VIN by greater than (See Datasheet)", 16 ~{FAULT} (oc) "Open-drain output, which pulls low upon any fault or interrupt condition, or thermal shutdown."

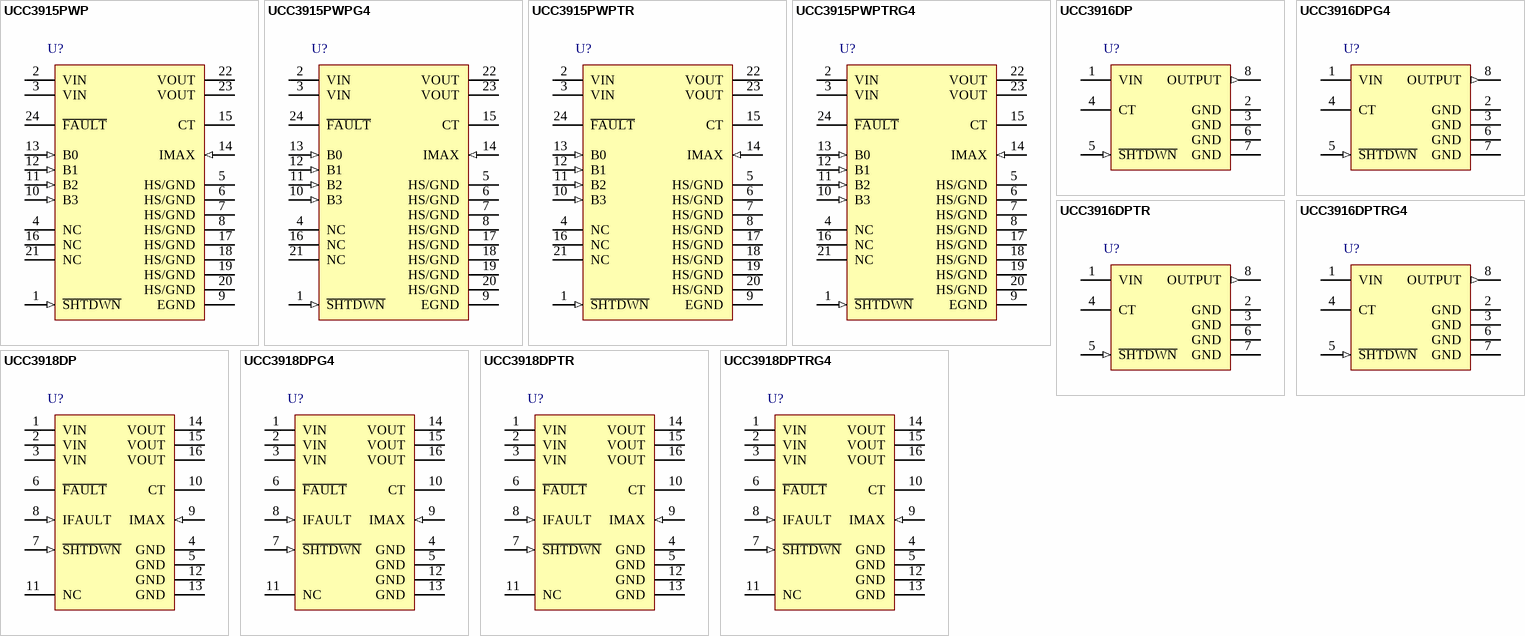
[diagram p2: symbols UCC3915PWP to UCC3918DPTRG4]